# Altium footprint library adafruit.PCBLIB: 643 footprints (part 15 of 41)
Each footprint in its own frame and in the unit in brackets; x right, y up, seen from the top. Pads: shape width x height; smd on the part's side, far side on the other; paste and mask are expansions set on the pad; w line width, h text height; cw(c..) or ccw(c..) is an arc to the next point about the centre after c.
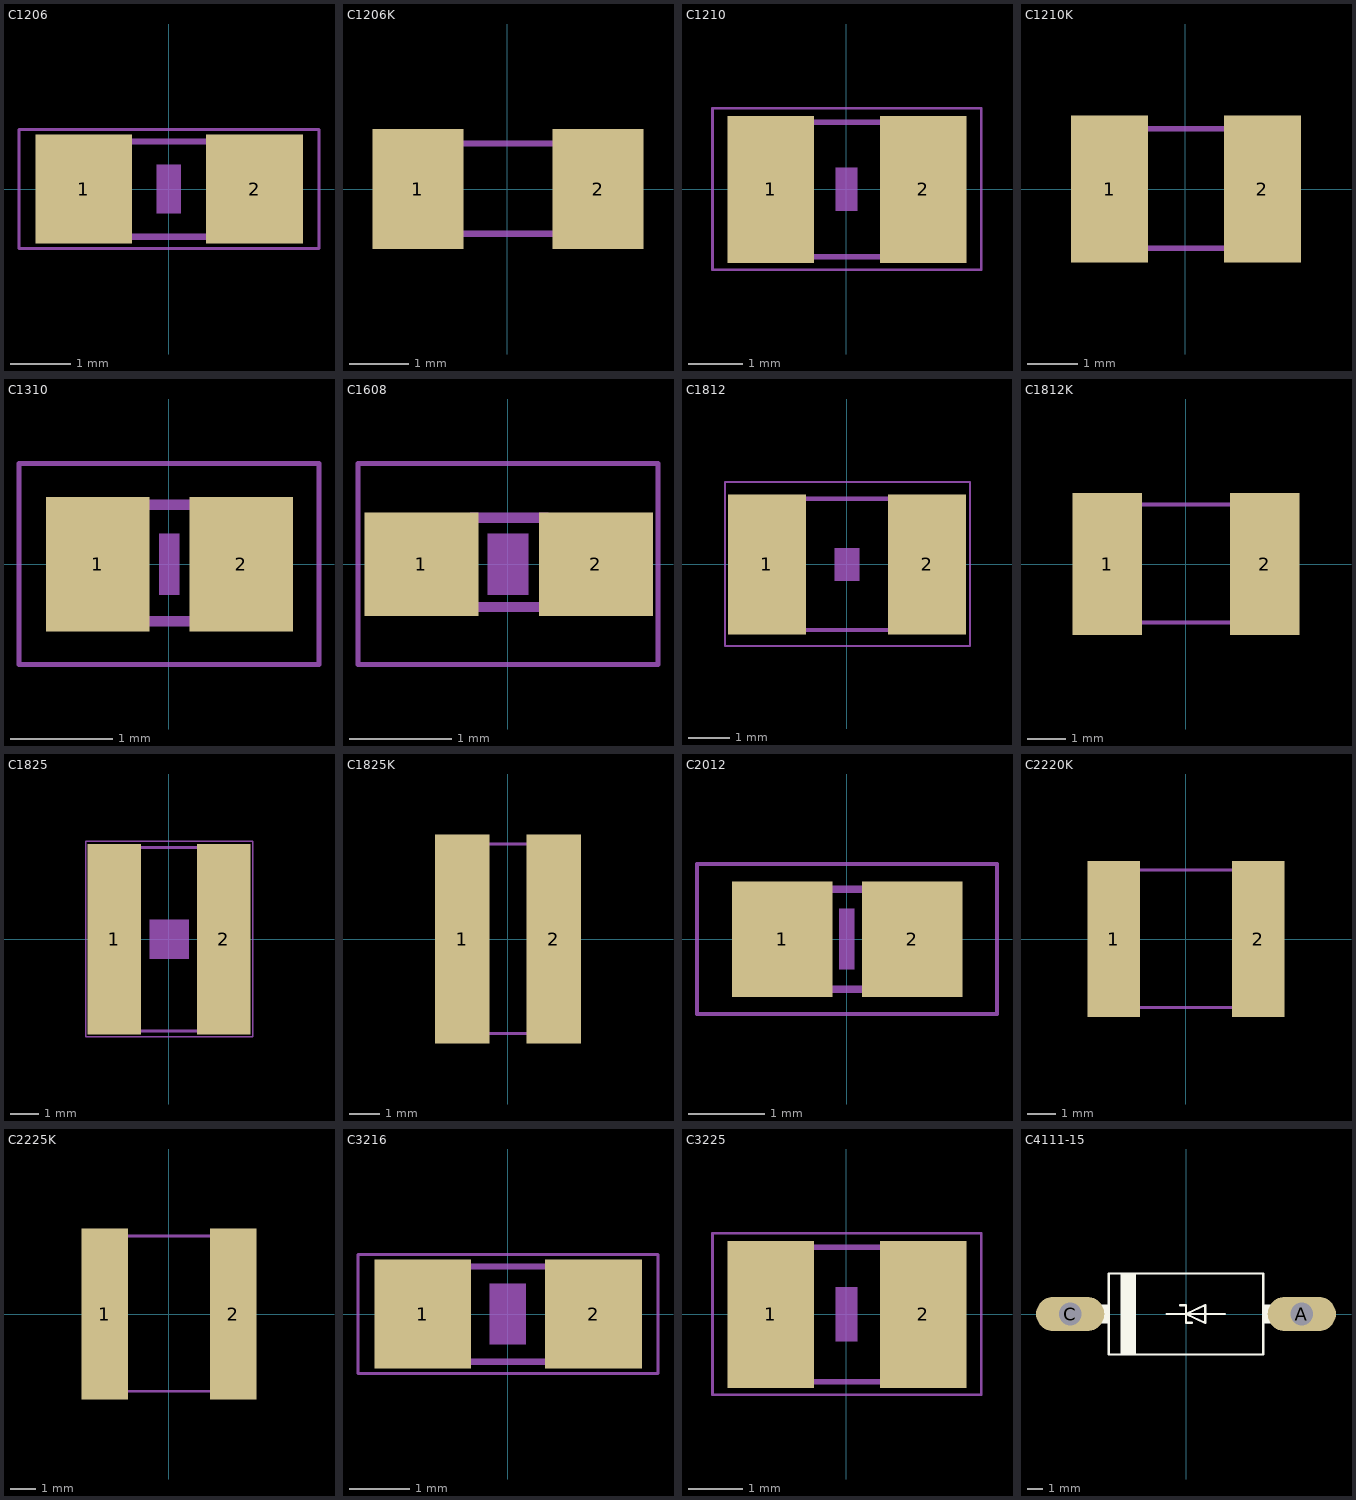
[diagram p14: the footprints below, top view; thin cyan lines are the x and y axes]

## C1206 [mil]
pads (2):
  rect 63x71 smd: 1(-55.12,0) 2(56,0)
Assembly Text Top:
  rectangle: -7.87,-15.75 8,16
Courtyard Bottom:
  rectangle: -67,-33.5 -37.47,34
  rectangle: 38,-33.43 67,34
  lines w4: -37.99,-30.98 38,-30.98 ; -37.99,31 38,31
Mech37:
  lines w2: -97.36,-38.7 98,-38.7 98,39 -97.36,39 -97.36,-38.7

## C1206K [mil]
pads (2):
  rect 60x79 smd: 1(-59.06,0) 2(60,0)
Courtyard Bottom:
  rectangle: -62.99,-31.5 -43.31,32
  rectangle: 44,-31.5 63,32
  lines w4: -60.04,-29.53 61,-29.53 ; -60.04,30 61,30

## C1210 [mil]
pads (2):
  rect 63x107 smd: 1(-55.12,0) 2(56,0)
Assembly Text Top:
  rectangle: -7.87,-15.75 8,16
Courtyard Bottom:
  rectangle: -67,-51 -37.47,52
  rectangle: 38,-51.36 67,51
  lines w4: -38,-49 38,-49 ; -38,49 38,49
Mech37:
  lines w2: -97.36,-58.39 98,-58.39 98,59 -97.36,59 -97.36,-58.39

## C1210K [mil]
pads (2):
  rect 60x115 smd: 1(-59.06,0) 2(60,0)
Courtyard Bottom:
  rectangle: -62.99,-49.21 -43.31,50
  rectangle: 44,-49.21 63,50
  lines w4: -60.04,-46.26 61,-46.26 ; -60.04,47 61,47

## C1310 [mil]
pads (2):
  rect 40x52 smd: 1(-27.56,0) 2(28,0)
Assembly Text Top:
  rectangle: -3.94,-11.81 4,12
Courtyard Bottom:
  rectangle: -26,-24.5 -11.04,25
  rectangle: 11,-24.5 26,25
  lines w4: -11.57,-22.01 12,-22.01 ; -11.57,23 12,23
Mech37:
  lines w2: -57.99,-38.7 58,-38.7 58,39 -57.99,39 -57.99,-38.7

## C1608 [mil]
pads (2):
  rect 44x40 smd: 1(-33.46,0) 2(34,0)
Assembly Text Top:
  rectangle: -7.87,-11.81 8,12
Courtyard Bottom:
  rectangle: -33,-18.5 -13.31,19
  rectangle: 13,-18.5 33,19
  lines w4: -14.02,-16.5 15,-16.5 ; -14.02,18 15,18
Mech37:
  lines w2: -57.99,-38.7 58,-38.7 58,39 -57.99,39 -57.99,-38.7

## C1812 [mil]
pads (2):
  rect 75x134 smd: 1(-76.77,0) 2(77,0)
Assembly Text Top:
  rectangle: -11.81,-15.75 12,16
Courtyard Bottom:
  rectangle: -94,-65 -56.6,65
  rectangle: 57,-65 95,65
  lines w4: -58,63 58,63 ; -57,-63 58,-63
Mech37:
  lines w2: -117.05,-78.07 118,-78.07 118,79 -117.05,79 -117.05,-78.07

## C1812K [mil]
pads (2):
  rect 71x146 smd: 1(-80.71,0) 2(81,0)
Courtyard Bottom:
  rectangle: -88.58,-62.99 -64.96,63
  rectangle: 65,-62.99 89,63
  lines w4: -85.63,-60.04 86,-60.04 ; -85.63,61 86,61

## C1825 [mil]
pads (2):
  rect 75x268 smd: 1(-76.77,0) 2(77,0)
Assembly Text Top:
  rectangle: -27.56,-27.56 28,28
Courtyard Bottom:
  rectangle: -95,-132 -57.6,132
  rectangle: 57,-132 95,132
  lines w4: -59,129 58,129 ; -58,-129 59,-129
Mech37:
  lines w2: -117.05,-137.13 118,-137.13 118,138 -117.05,138 -117.05,-137.13

## C1825K [mil]
pads (2):
  rect 71x272 smd: 1(-59.06,0) 2(60,0)
Courtyard Bottom:
  rectangle: -62.99,-125.98 -43.31,126
  rectangle: 44,-125.98 63,126
  lines w4: -60.04,-123.03 61,-123.03 ; -60.04,124 61,124

## C2012 [mil]
pads (2):
  rect 52x60 smd: 1(-33.46,0) 2(34,0)
Assembly Text Top:
  rectangle: -3.94,-15.75 4,16
Courtyard Bottom:
  rectangle: -43,-28.5 -13.47,29
  rectangle: 14,-28.5 44,29
  lines w4: -15,26 15,26 ; -14.02,-25.98 15,-25.98
Mech37:
  lines w2: -77.68,-38.7 78,-38.7 78,39 -77.68,39 -77.68,-38.7

## C2220K [mil]
pads (2):
  rect 73x217 smd: 1(-100.39,0) 2(101,0)
Courtyard Bottom:
  rectangle: -110.24,-98.43 -86.61,99
  rectangle: 87,-98.43 111,99
  lines w4: -107.28,-95.47 108,-95.47 ; -107.28,96 108,96

## C2225K [mil]
pads (2):
  rect 73x268 smd: 1(-100.39,0) 2(101,0)
Courtyard Bottom:
  rectangle: -110.24,-124.02 -86.61,125
  rectangle: 87,-124.02 111,125
  lines w4: -107.28,-121.06 108,-121.06 ; -107.28,122 108,122

## C3216 [mil]
pads (2):
  rect 63x71 smd: 1(-55.12,0) 2(56,0)
Assembly Text Top:
  rectangle: -11.81,-19.69 12,20
Courtyard Bottom:
  rectangle: -67,-33.5 -37.47,34
  rectangle: 38,-33.43 67,34
  lines w4: -37.99,-30.98 38,-30.98 ; -37.99,31 38,31
Mech37:
  lines w2: -97.36,-38.7 98,-38.7 98,39 -97.36,39 -97.36,-38.7

## C3225 [mil]
pads (2):
  rect 63x107 smd: 1(-55.12,0) 2(56,0)
Assembly Text Top:
  rectangle: -7.87,-19.69 8,20
Courtyard Bottom:
  rectangle: -67,-51 -37.47,52
  rectangle: 38,-51.36 67,51
  lines w4: -38,-49 38,-49 ; -38,49 38,49
Mech37:
  lines w2: -97.36,-58.39 98,-58.39 98,59 -97.36,59 -97.36,-58.39

## C4111-15 [mil]
pads (2):
  oval 177x88.5 hole 59: A(300,0) C(-300,0)
Top Overlay:
  rectangle: -235,-25 -200,25
  rectangle: 200,-25 235,25
  rectangle: -170,-105 -130,105
  lines w6: -50,0 0,0 ; -15,23 0,23 0,0 ; 15,-23 0,-23 0,0 ; 100,0 0,0 ; 0,0 50,23 50,-23 0,0 ; -200,-105 -200,105 200,105 200,-105 -200,-105
Courtyard Bottom:
  lines w50: -300,0 -245,0 ; 245,0 300,0